# Altium footprint library Gas Monitor Components.PcbLib: 50 footprints (part 2 of 4)
Each footprint in its own frame and in the unit in brackets; x right, y up, seen from the top. Pads: shape width x height; smd on the part's side, far side on the other; paste and mask are expansions set on the pad; w line width, h text height; cw(c..) or ccw(c..) is an arc to the next point about the centre after c.
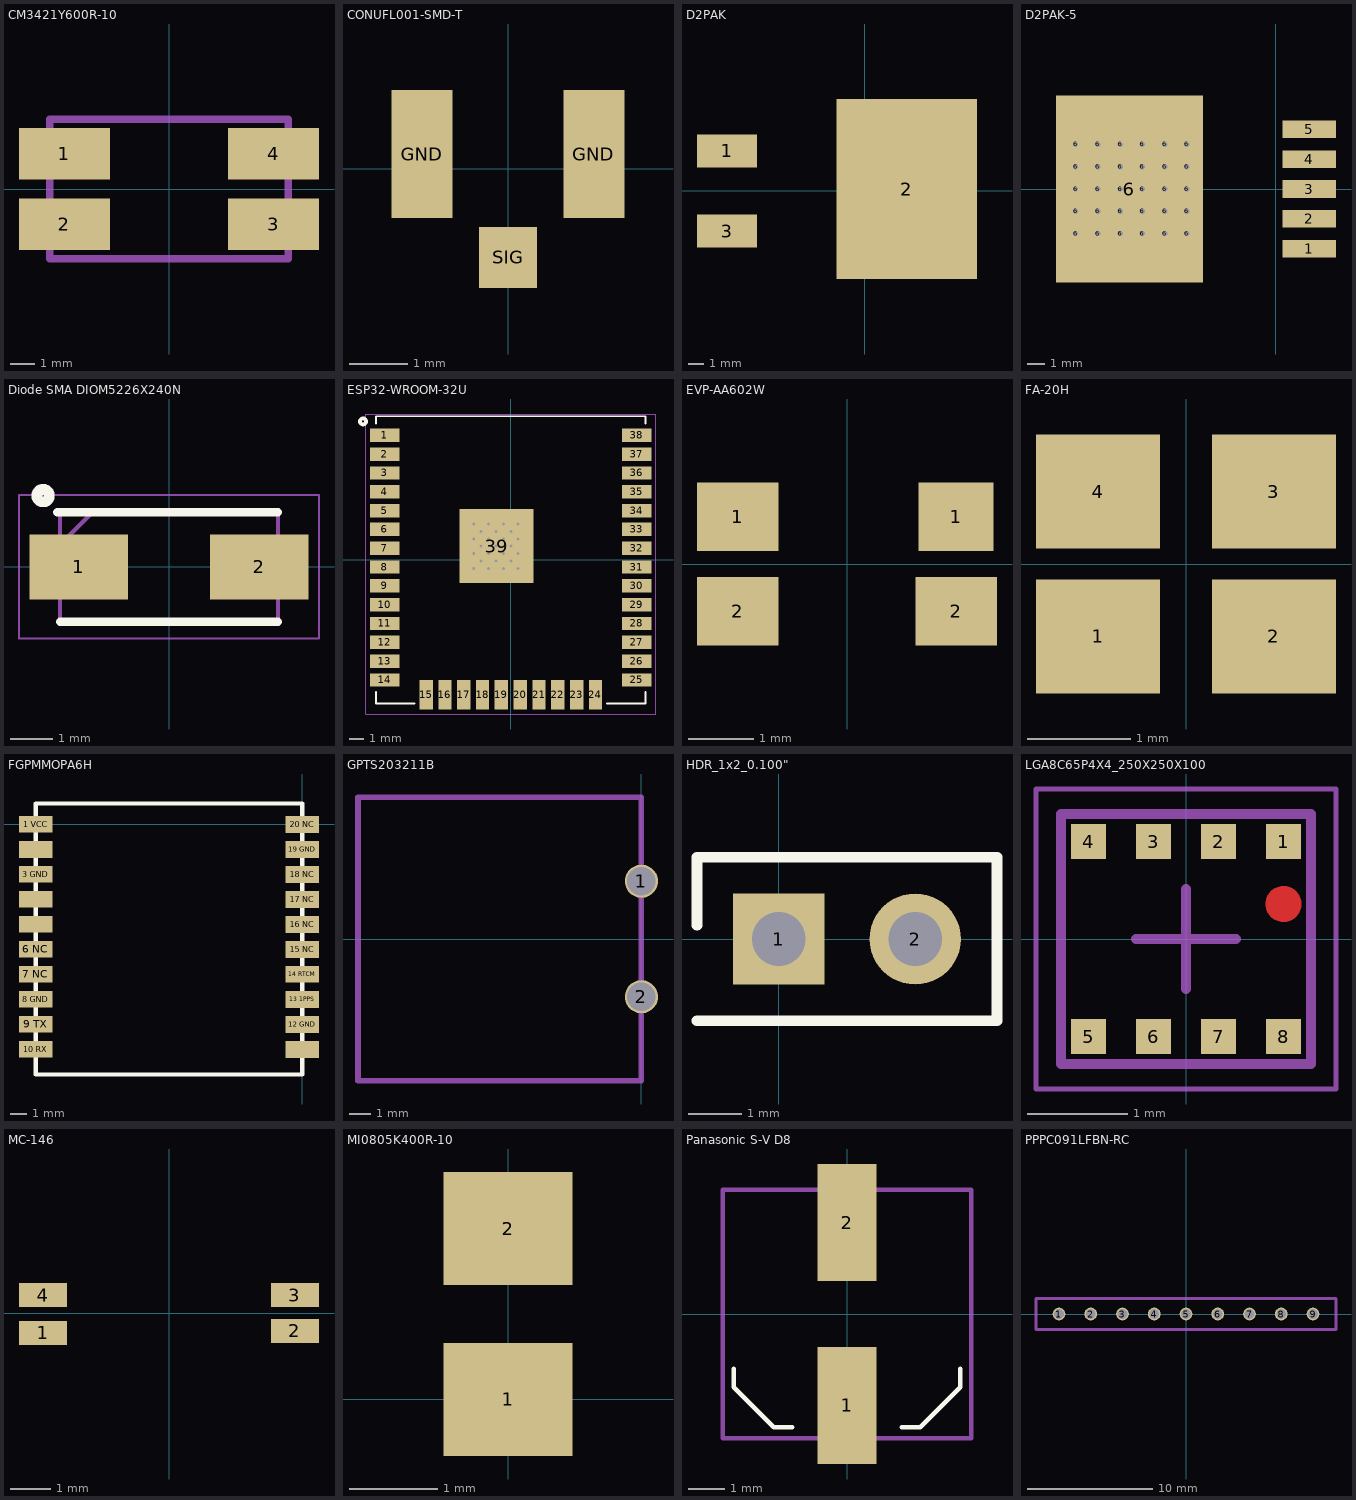
[diagram p1: the footprints below, top view; thin cyan lines are the x and y axes]

## CM3421Y600R-10 [mm]
pads (4):
  rect 3.66x2.08 smd: 1(-4.21,1.42) 2(-4.21,-1.42) 3(4.21,-1.42) 4(4.21,1.42)
Mechanical 13:
  lines w0.305: -4.8,-2.8 -4.8,2.8 4.8,2.8 4.8,-2.8 -4.8,-2.8
3D body: height 3.8, standoff 0, extent -4.8,-2.8 4.8,2.8

## CONUFL001-SMD-T [mm] "uFL Connector"
height 1.3
pads (3):
  rect 1.05x2.2 smd: GND(-1.475,0.25) GND(1.475,0.25)
  rect 1x1.05 smd: SIG(0,-1.525)
3D body "U.FL-R-SMT-1.stp": height 1.25, standoff 0, extent -1.5,-1.55 1.5,1.55

## D2PAK [mm] "D-PAK, 4-Leads, Body 6.1x6.6mm, Pitch 2.28mm, Lead Span 10mm, IPC Low Density"
height 2.39
pads (3):
  rect 3.81x2.08 smd: 1(-8.712,2.54) 3(-8.712,-2.54)
  rect 8.89x11.43 smd: 2(2.675,0.125)
3D body "D2PAK.step": height 5.03, standoff 0.02, extent -9.543,-5.08 5.721,5.08

## D2PAK-5 [mil]
pads (36):
  rect 120.08x40 smd: 1(75,-134.02) 2(75,-67.01) 3(75,0) 4(75,67.01) 5(75,134.02)
  round 20 hole 12: 6(-450,-100) 6(-450,-50) 6(-450,0) 6(-450,50) 6(-450,100) 6(-400,-100) 6(-400,-50) 6(-400,0) 6(-400,50) 6(-400,100) 6(-350,-100) 6(-350,-50) 6(-350,0) 6(-350,50) 6(-350,100) 6(-300,-100) 6(-300,-50) 6(-300,0) 6(-300,50) 6(-300,100) 6(-250,-100) 6(-250,-50) 6(-250,0) 6(-250,50) 6(-250,100) 6(-200,-100) 6(-200,-50) 6(-200,0) 6(-200,50) 6(-200,100)
  rect 329.92x419.69 smd: 6(-329.06,0)
3D body: height 180.12, standoff 0, extent -461.5,-202 118,202
3D body: height 180.12, standoff -2.01, extent -464,202 -464,202

## Diode SMA DIOM5226X240N [mm] "Diode SMA"
pads (2):
  rect 2.35x1.55 smd: 1(-2.15,0) 2(2.15,0)
Top Overlay:
  circle w0.254: c-3,1.7 r0.15
  lines w0.2: -2.667,1.302 2.598,1.302 ; -2.598,-1.302 2.598,-1.302
Mechanical 15:
  lines w0.1: -2.598,0.528 -1.822,1.302 ; -2.598,-1.302 -2.598,1.302 2.598,1.302 2.598,-1.302 -2.598,-1.302
Mechanical 20:
  lines w0.05: -3.575,-1.71 -3.575,1.71 3.575,1.71 3.575,-1.71 -3.575,-1.71
3D body "ES1B-13-F.stp": height 2.4, standoff 0, extent -2.597,-1.302 2.598,1.303

## ESP32-WROOM-32U [mm]
pads (64):
  rect 2x0.9 smd: 1(-8.5,8.41) 2(-8.5,7.14) 3(-8.5,5.87) 4(-8.5,4.6) 5(-8.5,3.33) 6(-8.5,2.06) 7(-8.5,0.79) 8(-8.5,-0.48) 9(-8.5,-1.75) 10(-8.5,-3.02) 11(-8.5,-4.29) 12(-8.5,-5.56) 13(-8.5,-6.83) 14(-8.5,-8.1) 25(8.5,-8.1) 26(8.5,-6.83) 27(8.5,-5.56) 28(8.5,-4.29) 29(8.5,-3.02) 30(8.5,-1.75) 31(8.5,-0.48) 32(8.5,0.79) 33(8.5,2.06) 34(8.5,3.33) 35(8.5,4.6) 36(8.5,5.87) 37(8.5,7.14) 38(8.5,8.41)
  rect 0.9x2 smd: 15(-5.715,-9.1) 16(-4.445,-9.1) 17(-3.175,-9.1) 18(-1.905,-9.1) 19(-0.635,-9.1) 20(0.635,-9.1) 21(1.905,-9.1) 22(3.175,-9.1) 23(4.445,-9.1) 24(5.715,-9.1)
  round 0.4 hole 0.2: 39(-2.5,-0.575) 39(-2.5,0.425) 39(-2.5,1.425) 39(-2.5,2.425) 39(-2,-0.075) 39(-2,0.925) 39(-2,1.925) 39(-1.5,-0.575) 39(-1.5,0.425) 39(-1.5,1.425) 39(-1.5,2.425) 39(-1,-0.075) 39(-1,0.925) 39(-1,1.925) 39(-0.5,-0.575) 39(-0.5,0.425) 39(-0.5,1.425) 39(-0.5,2.425) 39(0,-0.075) 39(0,0.925) 39(0,1.925) 39(0.5,-0.575) 39(0.5,0.425) 39(0.5,1.425) 39(0.5,2.425)
  rect 5x5 smd: 39(-0.96,0.93)
Top Overlay:
  circle w0.254: c-9.975,9.35 r0.203
  lines w0.125: -9.1,-8.9 -9.1,-9.7 -6.5,-9.7 ; -9.1,9.2 -9.1,9.7 ; 6.5,-9.7 9.1,-9.7 9.1,-8.9 ; 9.1,9.2 9.1,9.7
  lines w0.127: -9.1,9.7 9.1,9.7
Mechanical 15:
  lines w0.05: -9.8,-10.4 9.8,-10.4 9.8,9.85 -9.8,9.85 -9.8,-10.4
3D body "ESP32-WROOM-32U.STEP": height 3.3, standoff 0, extent -9,-9.6 9,9.6

## EVP-AA602W [mm] "SWITCH TACTILE SPST-NO 0.02A 15"
pads (4):
  rect 1.25x1.05 smd: 1(-1.675,0.725) 2(-1.675,-0.725) 2(1.675,-0.725)
  rect 1.15x1.05 smd: 1(1.675,0.725)
3D body "EVPAA-002K_202K_402W_602W_802Q.STEP": height 1.7, standoff 0, extent -2.159,-1.555 2.141,1.555

## FA-20H [mm] "40MHz Crystal"
height 0.55
pads (4):
  rect 1.2x1.1 smd: 1(-0.85,-0.7) 2(0.85,-0.7) 3(0.85,0.7) 4(-0.85,0.7)

## FGPMMOPA6H [mm] "GPS Module"
height 5.2
pads (20):
  rect 2x1 smd: "1 VCC"(-16,0) "2 NRESET"(-16,-1.5) "3 GND"(-16,-3) "4 VBACKUP"(-16,-4.5) "5 3D-FIX"(-16,-6) "6 NC"(-16,-7.5) "7 NC"(-16,-9) "8 GND"(-16,-10.5) "9 TX"(-16,-12) "10 RX"(-16,-13.5) "11 EX_ANT"(0,-13.5) "12 GND"(0,-12) "13 1PPS"(0,-10.5) "14 RTCM"(0,-9) "15 NC"(0,-7.5) "16 NC"(0,-6) "17 NC"(0,-4.5) "18 NC"(0,-3) "19 GND"(0,-1.5) "20 NC"(0,0)
Top Overlay:
  lines w0.254: -16,-15 0,-15 0,1.25 -16,1.25 -16,0.5 -16,-15

## GPTS203211B [mm] "SPST Push Button Switch"
height 9.1
pads (2):
  round 1.524 hole 1.3: 1(0,2.65) 2(0,-2.65)
Mechanical 15:
  lines w0.254: -13,-6.5 -13,6.5 0,6.5 0,-6.5 -13,-6.5
3D body: height 9.1, standoff 0, extent -13,-6.5 0,6.5

## HDR_1x2_0.100" [mm]
pads (2):
  rect 1.7x1.7 / inner round 1.7 / far side rect 1.7x1.7 hole 1: 1(0,0)
  round 1.7 hole 1: 2(2.54,0)
Top Overlay:
  lines w0.2: -1.524,-1.524 4.064,-1.524 4.064,1.524 -1.524,1.524 -1.524,0.254
3D body "PRPC002SAAN-RC.STEP": height 7.62, standoff -3.05, extent -1.27,-1.27 3.81,1.27

## LGA8C65P4X4_250X250X100 [mm] "LGA, 8-Leads, Body 2.50x2.50mmx1.00mm, Pitch 0.65mm"
height 1
pads (8):
  rect 0.35x0.35 smd: 1(0.975,0.975) 2(0.325,0.975) 3(-0.325,0.975) 4(-0.975,0.975) 5(-0.975,-0.975) 6(-0.325,-0.975) 7(0.325,-0.975) 8(0.975,-0.975)
Top Layer:
  circle w0.2: c0.975,0.35 r0.08
Mechanical 13:
  lines w0.1: -1.25,-1.25 -1.25,1.25 1.25,1.25 1.25,-1.25 -1.25,-1.25
Mechanical 15:
  lines w0.05: -1.5,-1.5 -1.5,1.5 1.5,1.5 1.5,-1.5 -1.5,-1.5
  lines w0.1: -0.5,0 0.5,0 ; 0,-0.5 0,0.5
3D body "LGA8C65P4X4_250X250X100.step": height 1, standoff 0, extent -1.25,-1.25 1.25,1.25

## MC-146 [mm] "32.768 kHz Crystal"
height 1.4
pads (4):
  rect 1.2x0.6 smd: 1(-3.15,-0.5) 2(3.15,-0.45) 3(3.15,0.45) 4(-3.15,0.45)

## MI0805K400R-10 [mm] "Ferrite Bead"
pads (2):
  rect 1.47x1.285 smd: 1(0,0) 2(0,1.945)

## Panasonic S-V D8 [mm]
height 7
pads (2):
  rect 1.6x3.2 smd: 1(0,-2.5) 2(0,2.5)
Top Overlay:
  lines w0.125: -3.1,-1.5 -3.1,-2 -2,-3.1 -1.5,-3.1 ; 1.5,-3.1 2,-3.1 3.1,-2 3.1,-1.5
Mechanical 13:
  lines w0.125: -3.4,-3.4 3.4,-3.4 3.4,3.4 -3.4,3.4 -3.4,-3.4
3D body: height 7.7, standoff 0, extent -3.15,-3.147 3.15,3.147

## PPPC091LFBN-RC [mm] "9-pin 0.100\" Female Header"
height 8.5
pads (9):
  round 1.02 hole 0.762: 1(-10.16,0) 2(-7.62,0) 3(-5.08,0) 4(-2.54,0) 5(0,0) 6(2.54,0) 7(5.08,0) 8(7.62,0) 9(10.16,0)
Mechanical 15:
  lines w0.254: -12,-1.25 -12,1.25 12,1.25 12,-1.25 -12,-1.25
3D body: height 8.5, standoff 0, extent -12,-1.25 12,1.25